# Altium footprint library infineon.PcbLib: 3 footprints
Each footprint in its own frame and in the unit in brackets; x right, y up, seen from the top. Pads: shape width x height; smd on the part's side, far side on the other; paste and mask are expansions set on the pad; w line width, h text height; cw(c..) or ccw(c..) is an arc to the next point about the centre after c.
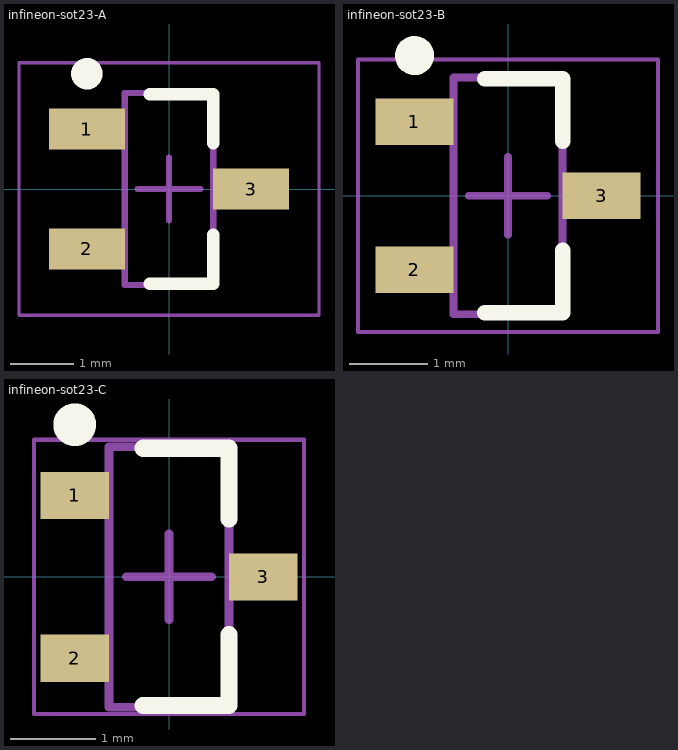
[diagram p0: the footprints below, top view; thin cyan lines are the x and y axes]

## infineon-sot23-A [mm] "SOT23, 3-Leads, Body 2.92x2.37mm, Pitch 0.95mm, IPC Low Density"
height 1.12
pads (3):
  rect 1.2x0.65 smd: 1(-1.3,0.95) 2(-1.3,-0.95) 3(1.3,0)
Top Overlay:
  circle w0.25: c-1.3,1.825 r0.125
  lines w0.2: -0.3,-1.5 0.7,-1.5 0.7,-0.725 ; -0.3,1.5 0.7,1.5 0.7,0.725
Mechanical 13:
  lines w0.1: -0.7,-1.52 -0.7,1.52 0.7,1.52 0.7,-1.52 -0.7,-1.52
Mechanical 15:
  lines w0.05: -2.375,-2 -2.375,2 2.375,2 2.375,-2 -2.375,-2
  lines w0.1: -0.5,0 0.5,0 ; 0,-0.5 0,0.5
3D body "infineon-sot23-A.step": height 1.12, standoff 0, extent -1.32,-1.52 1.32,1.52

## infineon-sot23-B [mm] "SOT23, 3-Leads, Body 2.92x2.37mm, Pitch 0.95mm, IPC Medium Density"
height 1.12
pads (3):
  rect 1x0.6 smd: 1(-1.2,0.95) 2(-1.2,-0.95) 3(1.2,0)
Top Overlay:
  circle w0.25: c-1.2,1.8 r0.125
  lines w0.2: -0.3,-1.5 0.7,-1.5 0.7,-0.7 ; -0.3,1.5 0.7,1.5 0.7,0.7
Mechanical 13:
  lines w0.1: -0.7,-1.52 0.7,-1.52 0.7,1.52 -0.7,1.52 -0.7,-1.52
Mechanical 15:
  lines w0.05: -1.925,-1.75 1.925,-1.75 1.925,1.75 -1.925,1.75 -1.925,-1.75
  lines w0.1: -0.5,0 0.5,0 ; 0,-0.5 0,0.5
3D body "infineon-sot23-B.step": height 1.12, standoff 0, extent -1.32,-1.52 1.32,1.52

## infineon-sot23-C [mm] "SOT23, 3-Leads, Body 2.92x2.37mm, Pitch 0.95mm, IPC High Density"
height 1.12
pads (3):
  rect 0.8x0.55 smd: 1(-1.1,0.95) 2(-1.1,-0.95) 3(1.1,0)
Top Overlay:
  circle w0.25: c-1.1,1.775 r0.125
  lines w0.2: -0.3,-1.5 0.7,-1.5 0.7,-0.675 ; -0.3,1.5 0.7,1.5 0.7,0.675
Mechanical 13:
  lines w0.1: -0.7,-1.52 0.7,-1.52 0.7,1.52 -0.7,1.52 -0.7,-1.52
Mechanical 15:
  lines w0.05: -1.575,-1.6 1.575,-1.6 1.575,1.6 -1.575,1.6 -1.575,-1.6
  lines w0.1: -0.5,0 0.5,0 ; 0,-0.5 0,0.5
3D body "infineon-sot23-C.step": height 1.12, standoff 0, extent -1.32,-1.52 1.32,1.52